# Altium footprint library Bosch.PcbLib: 2 footprints
Each footprint in its own frame and in the unit in brackets; x right, y up, seen from the top. Pads: shape width x height; smd on the part's side, far side on the other; paste and mask are expansions set on the pad; w line width, h text height; cw(c..) or ccw(c..) is an arc to the next point about the centre after c.
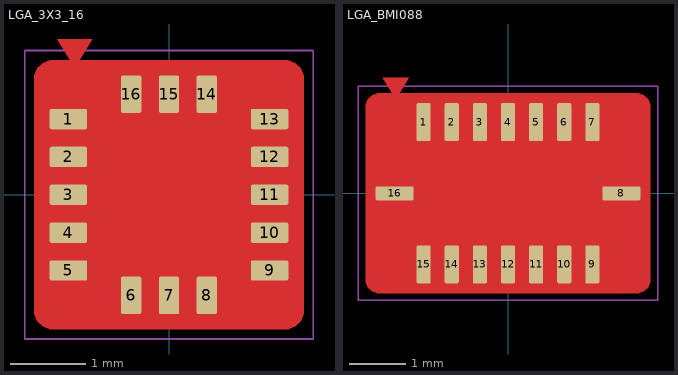
[diagram p0: the footprints below, top view; thin cyan lines are the x and y axes]

## LGA_3X3_16 [mm]
pads (16):
  rrect20% 0.497x0.27 smd mask+0.051: 1(-1.328,1) 2(-1.328,0.5) 3(-1.328,0) 4(-1.328,-0.5) 5(-1.328,-1) 9(1.328,-1) 10(1.328,-0.5) 11(1.328,0) 12(1.328,0.5) 13(1.328,1)
  rrect20% 0.27x0.497 smd mask+0.051: 6(-0.5,-1.328) 7(0,-1.328) 8(0.5,-1.328) 14(0.5,1.328) 15(0,1.328) 16(-0.5,1.328)
Top Layer:
  region: -1.245,1.676 -1.016,2.057 -1.473,2.057
  pour cut-out: -1.524,1.778 -1.575,1.778 -1.668,1.739 -1.739,1.668 -1.778,1.575 -1.778,1.524 -1.778,-1.524 -1.778,-1.575 -1.739,-1.668 -1.668,-1.739 -1.575,-1.778 -1.524,-1.778 1.524,-1.778 1.575,-1.778 1.668,-1.739 1.739,-1.668 1.778,-1.575 1.778,-1.524 1.778,1.524 1.778,1.575 1.739,1.668 1.668,1.739 1.575,1.778 1.524,1.778
Top Courtyard:
  lines w0.025: -1.905,-1.905 -1.905,1.905 1.905,1.905 1.905,-1.905 -1.905,-1.905
Top Component Outline:
  lines w0.025: -1.5,-1.5 1.5,-1.5 1.5,1.5 -1.5,1.5 -1.5,-1.5 ; -1.44,-1.125 -1.44,-0.875 -1.09,-0.875 -1.09,-1.125 -1.44,-1.125 ; -1.44,-0.625 -1.09,-0.625 -1.09,-0.375 -1.44,-0.375 -1.44,-0.625 ; -1.44,-0.125 -1.44,0.125 -1.09,0.125 -1.09,-0.125 -1.44,-0.125 ; -1.44,0.375 -1.09,0.375 -1.09,0.625 -1.44,0.625 -1.44,0.375 ; -1.44,0.875 -1.09,0.875 -1.09,1.125 -1.44,1.125 -1.44,0.875 ; -0.625,-1.44 -0.625,-1.09 -0.375,-1.09 -0.375,-1.44 -0.625,-1.44 ; -0.625,1.09 -0.375,1.09 -0.375,1.44 -0.625,1.44 -0.625,1.09 ; -0.125,-1.44 0.125,-1.44 0.125,-1.09 -0.125,-1.09 -0.125,-1.44 ; -0.125,1.09 0.125,1.09 0.125,1.44 -0.125,1.44 -0.125,1.09 ; 0.375,-1.44 0.375,-1.09 0.625,-1.09 0.625,-1.44 0.375,-1.44 ; 0.375,1.09 0.375,1.44 0.625,1.44 0.625,1.09 0.375,1.09 ; 1.09,-1.125 1.09,-0.875 1.44,-0.875 1.44,-1.125 1.09,-1.125 ; 1.09,-0.625 1.09,-0.375 1.44,-0.375 1.44,-0.625 1.09,-0.625 ; 1.09,-0.125 1.44,-0.125 1.44,0.125 1.09,0.125 1.09,-0.125 ; 1.09,0.375 1.09,0.625 1.44,0.625 1.44,0.375 1.09,0.375 ; 1.09,0.875 1.44,0.875 1.44,1.125 1.09,1.125 1.09,0.875
3D body: height 0.75, standoff 0.05, extent -1.5,-1.5 1.5,1.5

## LGA_BMI088 [mm]
pads (16):
  rrect20% 0.25x0.675 smd mask+0.051: 1(-1.5,1.265) 2(-1,1.265) 3(-0.5,1.265) 4(0,1.265) 5(0.5,1.265) 6(1,1.265) 7(1.5,1.265) 9(1.5,-1.265) 10(1,-1.265) 11(0.5,-1.265) 12(0,-1.265) 13(-0.5,-1.265) 14(-1,-1.265) 15(-1.5,-1.265)
  rrect20% 0.675x0.25 smd mask+0.051: 8(2.015,0) 16(-2.015,0)
Top Layer:
  pour cut-out: -2.274,1.778 -2.325,1.778 -2.418,1.739 -2.489,1.668 -2.528,1.575 -2.528,1.524 -2.528,-1.524 -2.528,-1.575 -2.489,-1.668 -2.418,-1.739 -2.325,-1.778 -2.274,-1.778 2.274,-1.778 2.325,-1.778 2.418,-1.739 2.489,-1.668 2.528,-1.575 2.528,-1.524 2.528,1.524 2.528,1.575 2.489,1.668 2.418,1.739 2.325,1.778 2.274,1.778
  region: -1.995,1.676 -1.766,2.057 -2.223,2.057
Top Courtyard:
  lines w0.025: -2.667,-1.905 -2.667,1.905 2.667,1.905 2.667,-1.905 -2.667,-1.905
Top Component Outline:
  lines w0.025: -1.915,0 1.915,0 ; -1.625,-1.402 -1.375,-1.402 ; -1.625,1.402 -1.375,1.402 ; -1.125,-1.402 -0.875,-1.402 ; -1.125,1.402 -0.875,1.402 ; -0.625,-1.402 -0.375,-1.402 ; -0.625,1.402 -0.375,1.402 ; -0.125,-1.402 0.125,-1.402 ; -0.125,1.402 0.125,1.402 ; 0,-1.165 0,1.165 ; 0.375,-1.402 0.625,-1.402 ; 0.375,1.402 0.625,1.402 ; 0.875,-1.402 1.125,-1.402 ; 0.875,1.402 1.125,1.402 ; 1.375,-1.402 1.625,-1.402 ; 1.375,1.402 1.625,1.402 ; -2.153,0.125 -1.677,-0.125 ; -2.153,0.125 -2.153,-0.125 -1.677,-0.125 ; -2.153,0.125 -1.677,0.125 -1.677,-0.125 ; 1.677,0.125 2.153,-0.125 ; 1.677,0.125 1.677,-0.125 2.153,-0.125 ; 1.677,0.125 2.153,0.125 2.153,-0.125 ; -2.25,-1.5 2.25,-1.5 2.25,1.5 -2.25,1.5 -2.25,-1.5 ; -1.625,-1.602 -1.625,-0.927 -1.375,-0.927 -1.375,-1.602 -1.625,-1.602 ; -1.625,0.927 -1.625,1.602 -1.375,1.602 -1.375,0.927 -1.625,0.927 ; -1.125,-1.602 -1.125,-0.927 -0.875,-0.927 -0.875,-1.602 -1.125,-1.602 ; -1.125,0.927 -1.125,1.602 -0.875,1.602 -0.875,0.927 -1.125,0.927 ; -0.625,-1.602 -0.625,-0.927 -0.375,-0.927 -0.375,-1.602 -0.625,-1.602 ; -0.625,0.927 -0.625,1.602 -0.375,1.602 -0.375,0.927 -0.625,0.927 ; -0.125,-1.602 -0.125,-0.927 0.125,-0.927 0.125,-1.602 -0.125,-1.602 ; -0.125,0.927 -0.125,1.602 0.125,1.602 0.125,0.927 -0.125,0.927 ; 0.375,-1.602 0.375,-0.927 0.625,-0.927 0.625,-1.602 0.375,-1.602 ; 0.375,0.927 0.375,1.602 0.625,1.602 0.625,0.927 0.375,0.927 ; 0.875,-1.602 0.875,-0.927 1.125,-0.927 1.125,-1.602 0.875,-1.602 ; 0.875,0.927 0.875,1.602 1.125,1.602 1.125,0.927 0.875,0.927 ; 1.375,-1.602 1.375,-0.927 1.625,-0.927 1.625,-1.602 1.375,-1.602 ; 1.375,0.927 1.375,1.602 1.625,1.602 1.625,0.927 1.375,0.927
3D body: height 0.75, standoff 0.05, extent -2.25,-1.5 2.25,1.5